# Altium schematic symbol library SCH - POWER - SWITCHMODE - TI TPS82085SIL.SchLib: 1 symbol
Pins are listed as number, name and electrical type; pins without a type are passive.

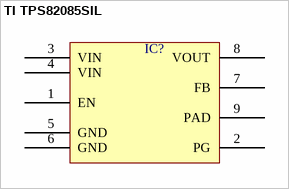
[diagram p0: symbol TI TPS82085SIL]

## TI TPS82085SIL
designator IC?  (value not drawn)
pins: 1 EN, 2 PG, 3 VIN, 4 VIN, 5 GND, 6 GND, 7 FB, 8 VOUT, 9 PAD